# Altium footprint library Connector_Samtec_HSEC8.PcbLib: 133 footprints (part 6 of 9)
Each footprint in its own frame and in the unit in brackets; x right, y up, seen from the top. Pads: shape width x height; smd on the part's side, far side on the other; paste and mask are expansions set on the pad; w line width, h text height; cw(c..) or ccw(c..) is an arc to the next point about the centre after c.
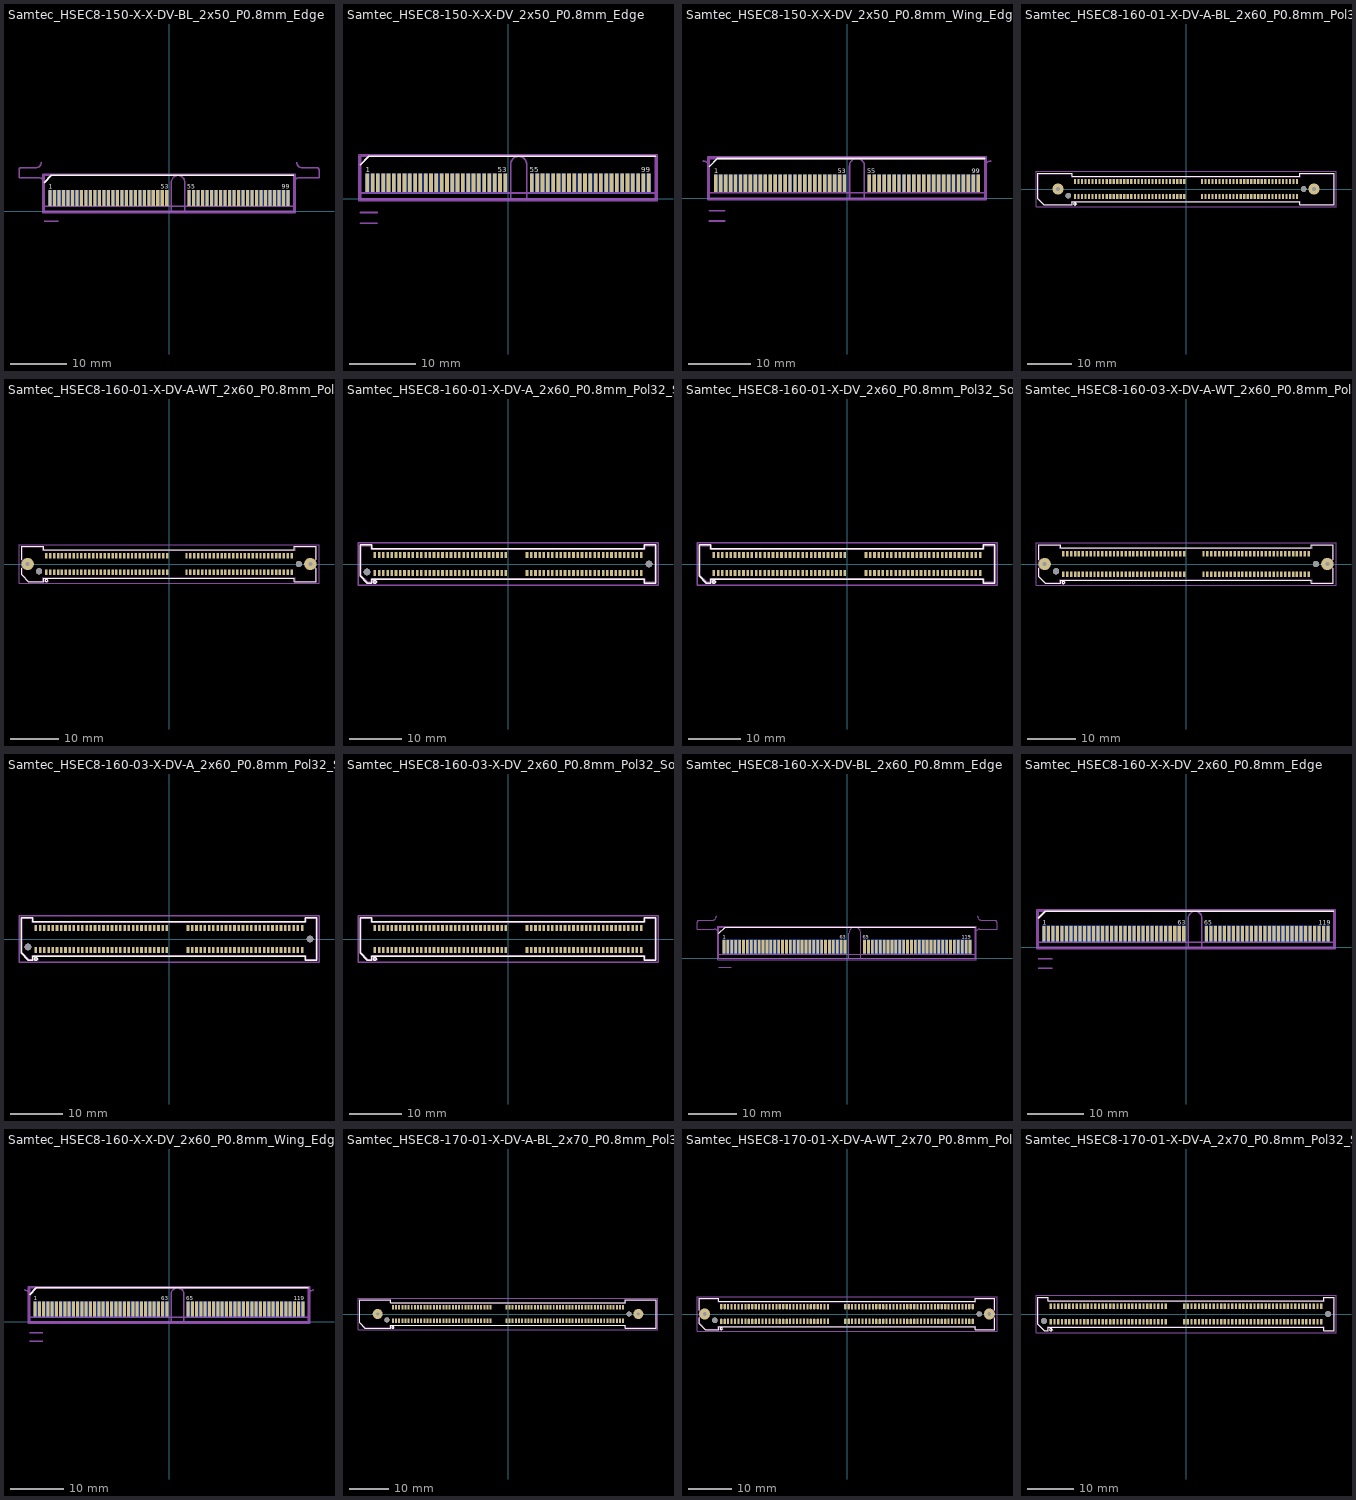
[diagram p5: the footprints below, top view; thin cyan lines are the x and y axes]

## Samtec_HSEC8-150-X-X-DV-BL_2x50_P0.8mm_Edge [mm]
pads (100):
  rect 0.55x2.8 smd: 1(-21.2,2.4) 3(-20.4,2.4) 5(-19.6,2.4) 7(-18.8,2.4) 9(-18,2.4) 11(-17.2,2.4) 13(-16.4,2.4) 15(-15.6,2.4) 17(-14.8,2.4) 19(-14,2.4) 21(-13.2,2.4) 23(-12.4,2.4) 25(-11.6,2.4) 27(-10.8,2.4) 29(-10,2.4) 31(-9.2,2.4) 33(-8.4,2.4) 35(-7.6,2.4) 37(-6.8,2.4) 39(-6,2.4) 41(-5.2,2.4) 43(-4.4,2.4) 45(-3.6,2.4) 47(-2.8,2.4) 49(-2,2.4) 51(-1.2,2.4) 53(-0.4,2.4) 55(3.6,2.4) 57(4.4,2.4) 59(5.2,2.4) 61(6,2.4) 63(6.8,2.4) 65(7.6,2.4) 67(8.4,2.4) 69(9.2,2.4) 71(10,2.4) 73(10.8,2.4) 75(11.6,2.4) 77(12.4,2.4) 79(13.2,2.4) 81(14,2.4) 83(14.8,2.4) 85(15.6,2.4) 87(16.4,2.4) 89(17.2,2.4) 91(18,2.4) 93(18.8,2.4) 95(19.6,2.4) 97(20.4,2.4) 99(21.2,2.4)
  rect 0.55x2.8 smd far side: 2(-21.2,2.4) 4(-20.4,2.4) 6(-19.6,2.4) 8(-18.8,2.4) 10(-18,2.4) 12(-17.2,2.4) 14(-16.4,2.4) 16(-15.6,2.4) 18(-14.8,2.4) 20(-14,2.4) 22(-13.2,2.4) 24(-12.4,2.4) 26(-11.6,2.4) 28(-10.8,2.4) 30(-10,2.4) 32(-9.2,2.4) 34(-8.4,2.4) 36(-7.6,2.4) 38(-6.8,2.4) 40(-6,2.4) 42(-5.2,2.4) 44(-4.4,2.4) 46(-3.6,2.4) 48(-2.8,2.4) 50(-2,2.4) 52(-1.2,2.4) 54(-0.4,2.4) 56(3.6,2.4) 58(4.4,2.4) 60(5.2,2.4) 62(6,2.4) 64(6.8,2.4) 66(7.6,2.4) 68(8.4,2.4) 70(9.2,2.4) 72(10,2.4) 74(10.8,2.4) 76(11.6,2.4) 78(12.4,2.4) 80(13.2,2.4) 82(14,2.4) 84(14.8,2.4) 86(15.6,2.4) 88(16.4,2.4) 90(17.2,2.4) 92(18,2.4) 94(18.8,2.4) 96(19.6,2.4) 98(20.4,2.4) 100(21.2,2.4)
F.SilkS:
  lines w0.254: -22.225,5.13 -20.955,6.4 22.225,6.4
  text "99" at 20.109,4.025 h0.75
  text "55" at 3.241,4.025 h0.75
  text "53" at -1.509,4.025 h0.75
  text "1" at -21.439,4.025 h0.75
B.SilkS:
  lines w0.254: -22.225,6.4 22.225,6.4
  text "100" at 21.459,4.025 h0.75
  text "56" at 4.691,4.025 h0.75
  text "54" at -0.023,4.025 h0.75
  text "2" at -20.8,4.025 h0.75
Top Assembly:
  lines w0.254: -22.225,0.88 22.225,0.88 ; -22.225,0 22.225,0 22.225,6.4 -20.955,6.4 -22.225,5.13 -22.225,0
  text "'.Designator'" at -4.047,1.7 h1
Bottom Assembly:
  lines w0.254: -22.225,0.88 22.225,0.88 ; -22.225,0 22.225,0 22.225,6.4 -22.225,6.4 -22.225,0
Top Courtyard:
  lines w0.254: -22.48,-0.25 22.48,-0.25 22.48,6.65 -22.48,6.65 -22.48,-0.25
Bottom Courtyard:
  lines w0.254: -22.48,-0.25 22.48,-0.25 22.48,6.65 -22.48,6.65 -22.48,-0.25
Top Designator:
  text ".Designator" at -7.618,2.485 h1.52
Board Shape:
  lines w0.254: -22.725,8.78 cw(c-23.725,8.78) -23.725,7.78 -26.325,7.78 ccw(c-26.325,7.38) -26.725,7.38 -26.725,6 -23.225,6 cw(c-23.225,5) -22.225,5 -22.225,0 0.405,0 0.405,5.2 cw(c1.605,5.2) 2.805,5.2 2.805,0 22.225,0 22.225,5 cw(c23.225,5) 23.225,6 26.725,6 26.725,7.38 ccw(c26.325,7.38) 26.325,7.78 23.725,7.78 cw(c23.725,8.78) 22.725,8.78
Cmts.User:
  lines w0.254: -22.225,-1.8 -19.725,-1.8
  text "mated PCB distance: 1.80 mm (ref)" at -19.63,-2.521 h0.75
  text "Chamfer 30 degree 0.45 mm" at -7.868,-0.21 h0.75

## Samtec_HSEC8-150-X-X-DV_2x50_P0.8mm_Edge [mm]
pads (100):
  rect 0.55x2.8 smd: 1(-21.2,2.4) 3(-20.4,2.4) 5(-19.6,2.4) 7(-18.8,2.4) 9(-18,2.4) 11(-17.2,2.4) 13(-16.4,2.4) 15(-15.6,2.4) 17(-14.8,2.4) 19(-14,2.4) 21(-13.2,2.4) 23(-12.4,2.4) 25(-11.6,2.4) 27(-10.8,2.4) 29(-10,2.4) 31(-9.2,2.4) 33(-8.4,2.4) 35(-7.6,2.4) 37(-6.8,2.4) 39(-6,2.4) 41(-5.2,2.4) 43(-4.4,2.4) 45(-3.6,2.4) 47(-2.8,2.4) 49(-2,2.4) 51(-1.2,2.4) 53(-0.4,2.4) 55(3.6,2.4) 57(4.4,2.4) 59(5.2,2.4) 61(6,2.4) 63(6.8,2.4) 65(7.6,2.4) 67(8.4,2.4) 69(9.2,2.4) 71(10,2.4) 73(10.8,2.4) 75(11.6,2.4) 77(12.4,2.4) 79(13.2,2.4) 81(14,2.4) 83(14.8,2.4) 85(15.6,2.4) 87(16.4,2.4) 89(17.2,2.4) 91(18,2.4) 93(18.8,2.4) 95(19.6,2.4) 97(20.4,2.4) 99(21.2,2.4)
  rect 0.55x2.8 smd far side: 2(-21.2,2.4) 4(-20.4,2.4) 6(-19.6,2.4) 8(-18.8,2.4) 10(-18,2.4) 12(-17.2,2.4) 14(-16.4,2.4) 16(-15.6,2.4) 18(-14.8,2.4) 20(-14,2.4) 22(-13.2,2.4) 24(-12.4,2.4) 26(-11.6,2.4) 28(-10.8,2.4) 30(-10,2.4) 32(-9.2,2.4) 34(-8.4,2.4) 36(-7.6,2.4) 38(-6.8,2.4) 40(-6,2.4) 42(-5.2,2.4) 44(-4.4,2.4) 46(-3.6,2.4) 48(-2.8,2.4) 50(-2,2.4) 52(-1.2,2.4) 54(-0.4,2.4) 56(3.6,2.4) 58(4.4,2.4) 60(5.2,2.4) 62(6,2.4) 64(6.8,2.4) 66(7.6,2.4) 68(8.4,2.4) 70(9.2,2.4) 72(10,2.4) 74(10.8,2.4) 76(11.6,2.4) 78(12.4,2.4) 80(13.2,2.4) 82(14,2.4) 84(14.8,2.4) 86(15.6,2.4) 88(16.4,2.4) 90(17.2,2.4) 92(18,2.4) 94(18.8,2.4) 96(19.6,2.4) 98(20.4,2.4) 100(21.2,2.4)
F.SilkS:
  lines w0.254: -22.225,5.13 -20.955,6.4 22.225,6.4
  text "99" at 20.109,4.025 h0.75
  text "55" at 3.241,4.025 h0.75
  text "53" at -1.509,4.025 h0.75
  text "1" at -21.439,4.025 h0.75
B.SilkS:
  lines w0.254: -22.225,6.4 22.225,6.4
  text "100" at 21.459,4.025 h0.75
  text "56" at 4.691,4.025 h0.75
  text "54" at -0.023,4.025 h0.75
  text "2" at -20.8,4.025 h0.75
Top Assembly:
  lines w0.254: -22.225,0.88 22.225,0.88 ; -22.225,0 22.225,0 22.225,6.4 -20.955,6.4 -22.225,5.13 -22.225,0
  text "'.Designator'" at -4.047,1.7 h1
Bottom Assembly:
  lines w0.254: -22.225,0.88 22.225,0.88 ; -22.225,0 22.225,0 22.225,6.4 -22.225,6.4 -22.225,0
Top Courtyard:
  lines w0.254: -22.48,-0.25 22.48,-0.25 22.48,6.65 -22.48,6.65 -22.48,-0.25
Bottom Courtyard:
  lines w0.254: -22.48,-0.25 22.48,-0.25 22.48,6.65 -22.48,6.65 -22.48,-0.25
Top Designator:
  text ".Designator" at -7.618,0.475 h1.52
Board Shape:
  lines w0.254: -22.225,5 -22.225,0 0.405,0 0.405,5.2 cw(c1.605,5.2) 2.805,5.2 2.805,0 22.225,0 22.225,5
Cmts.User:
  lines w0.254: -22.225,-3.69 -19.725,-3.69 ; -22.225,-2.05 -19.725,-2.05
  text "mated PCB distance: 3.69 mm (max)" at -19.63,-4.411 h0.75
  text "mated PCB distance: 2.05 mm (min)" at -19.63,-2.771 h0.75
  text "Chamfer 30 degree 0.45 mm" at -7.868,-0.21 h0.75

## Samtec_HSEC8-150-X-X-DV_2x50_P0.8mm_Wing_Edge [mm]
pads (100):
  rect 0.55x2.8 smd: 1(-21.2,2.4) 3(-20.4,2.4) 5(-19.6,2.4) 7(-18.8,2.4) 9(-18,2.4) 11(-17.2,2.4) 13(-16.4,2.4) 15(-15.6,2.4) 17(-14.8,2.4) 19(-14,2.4) 21(-13.2,2.4) 23(-12.4,2.4) 25(-11.6,2.4) 27(-10.8,2.4) 29(-10,2.4) 31(-9.2,2.4) 33(-8.4,2.4) 35(-7.6,2.4) 37(-6.8,2.4) 39(-6,2.4) 41(-5.2,2.4) 43(-4.4,2.4) 45(-3.6,2.4) 47(-2.8,2.4) 49(-2,2.4) 51(-1.2,2.4) 53(-0.4,2.4) 55(3.6,2.4) 57(4.4,2.4) 59(5.2,2.4) 61(6,2.4) 63(6.8,2.4) 65(7.6,2.4) 67(8.4,2.4) 69(9.2,2.4) 71(10,2.4) 73(10.8,2.4) 75(11.6,2.4) 77(12.4,2.4) 79(13.2,2.4) 81(14,2.4) 83(14.8,2.4) 85(15.6,2.4) 87(16.4,2.4) 89(17.2,2.4) 91(18,2.4) 93(18.8,2.4) 95(19.6,2.4) 97(20.4,2.4) 99(21.2,2.4)
  rect 0.55x2.8 smd far side: 2(-21.2,2.4) 4(-20.4,2.4) 6(-19.6,2.4) 8(-18.8,2.4) 10(-18,2.4) 12(-17.2,2.4) 14(-16.4,2.4) 16(-15.6,2.4) 18(-14.8,2.4) 20(-14,2.4) 22(-13.2,2.4) 24(-12.4,2.4) 26(-11.6,2.4) 28(-10.8,2.4) 30(-10,2.4) 32(-9.2,2.4) 34(-8.4,2.4) 36(-7.6,2.4) 38(-6.8,2.4) 40(-6,2.4) 42(-5.2,2.4) 44(-4.4,2.4) 46(-3.6,2.4) 48(-2.8,2.4) 50(-2,2.4) 52(-1.2,2.4) 54(-0.4,2.4) 56(3.6,2.4) 58(4.4,2.4) 60(5.2,2.4) 62(6,2.4) 64(6.8,2.4) 66(7.6,2.4) 68(8.4,2.4) 70(9.2,2.4) 72(10,2.4) 74(10.8,2.4) 76(11.6,2.4) 78(12.4,2.4) 80(13.2,2.4) 82(14,2.4) 84(14.8,2.4) 86(15.6,2.4) 88(16.4,2.4) 90(17.2,2.4) 92(18,2.4) 94(18.8,2.4) 96(19.6,2.4) 98(20.4,2.4) 100(21.2,2.4)
F.SilkS:
  lines w0.254: -22.225,5.13 -20.955,6.4 22.225,6.4
  text "99" at 20.109,4.025 h0.75
  text "55" at 3.241,4.025 h0.75
  text "53" at -1.509,4.025 h0.75
  text "1" at -21.439,4.025 h0.75
B.SilkS:
  lines w0.254: -22.225,6.4 22.225,6.4
  text "100" at 21.459,4.025 h0.75
  text "56" at 4.691,4.025 h0.75
  text "54" at -0.023,4.025 h0.75
  text "2" at -20.8,4.025 h0.75
Top Assembly:
  lines w0.254: -22.225,0.88 22.225,0.88 ; -22.225,0 22.225,0 22.225,6.4 -20.955,6.4 -22.225,5.13 -22.225,0
  text "'.Designator'" at -4.047,1.7 h1
Bottom Assembly:
  lines w0.254: -22.225,0.88 22.225,0.88 ; -22.225,0 22.225,0 22.225,6.4 -22.225,6.4 -22.225,0
Top Courtyard:
  lines w0.254: -22.48,-0.25 22.48,-0.25 22.48,6.65 -22.48,6.65 -22.48,-0.25
Bottom Courtyard:
  lines w0.254: -22.48,-0.25 22.48,-0.25 22.48,6.65 -22.48,6.65 -22.48,-0.25
Top Designator:
  text ".Designator" at -7.618,0.475 h1.52
Board Shape:
  lines w0.254: -23.225,6 cw(c-23.225,5) -22.225,5 -22.225,0 0.405,0 0.405,5.2 cw(c1.605,5.2) 2.805,5.2 2.805,0 22.225,0 22.225,5 cw(c23.225,5) 23.225,6
Cmts.User:
  lines w0.254: -22.225,-3.69 -19.725,-3.69 ; -22.225,-2.05 -19.725,-2.05
  text "mated PCB distance: 3.69 mm (max)" at -19.63,-4.411 h0.75
  text "mated PCB distance: 2.05 mm (min)" at -19.63,-2.771 h0.75
  text "Chamfer 30 degree 0.45 mm" at -7.868,-0.21 h0.75

## Samtec_HSEC8-160-01-X-DV-A-BL_2x60_P0.8mm_Pol32_Socket_WeldTabs_BoardLocks [mm]
pads (124):
  rrect25% 0.5x1.2 smd: 1(-25.2,-1.7) 2(-25.2,1.7) 3(-24.4,-1.7) 4(-24.4,1.7) 5(-23.6,-1.7) 6(-23.6,1.7) 7(-22.8,-1.7) 8(-22.8,1.7) 9(-22,-1.7) 10(-22,1.7) 11(-21.2,-1.7) 12(-21.2,1.7) 13(-20.4,-1.7) 14(-20.4,1.7) 15(-19.6,-1.7) 16(-19.6,1.7) 17(-18.8,-1.7) 18(-18.8,1.7) 19(-18,-1.7) 20(-18,1.7) 21(-17.2,-1.7) 22(-17.2,1.7) 23(-16.4,-1.7) 24(-16.4,1.7) 25(-15.6,-1.7) 26(-15.6,1.7) 27(-14.8,-1.7) 28(-14.8,1.7) 29(-14,-1.7) 30(-14,1.7) 31(-13.2,-1.7) 32(-13.2,1.7) 33(-12.4,-1.7) 34(-12.4,1.7) 35(-11.6,-1.7) 36(-11.6,1.7) 37(-10.8,-1.7) 38(-10.8,1.7) 39(-10,-1.7) 40(-10,1.7) 41(-9.2,-1.7) 42(-9.2,1.7) 43(-8.4,-1.7) 44(-8.4,1.7) 45(-7.6,-1.7) 46(-7.6,1.7) 47(-6.8,-1.7) 48(-6.8,1.7) 49(-6,-1.7) 50(-6,1.7) 51(-5.2,-1.7) 52(-5.2,1.7) 53(-4.4,-1.7) 54(-4.4,1.7) 55(-3.6,-1.7) 56(-3.6,1.7) 57(-2.8,-1.7) 58(-2.8,1.7) 59(-2,-1.7) 60(-2,1.7) 61(-1.2,-1.7) 62(-1.2,1.7) 63(-0.4,-1.7) 64(-0.4,1.7) 65(3.6,-1.7) 66(3.6,1.7) 67(4.4,-1.7) 68(4.4,1.7) 69(5.2,-1.7) 70(5.2,1.7) 71(6,-1.7) 72(6,1.7) 73(6.8,-1.7) 74(6.8,1.7) 75(7.6,-1.7) 76(7.6,1.7) 77(8.4,-1.7) 78(8.4,1.7) 79(9.2,-1.7) 80(9.2,1.7) 81(10,-1.7) 82(10,1.7) 83(10.8,-1.7) 84(10.8,1.7) 85(11.6,-1.7) 86(11.6,1.7) 87(12.4,-1.7) 88(12.4,1.7) 89(13.2,-1.7) 90(13.2,1.7) 91(14,-1.7) 92(14,1.7) 93(14.8,-1.7) 94(14.8,1.7) 95(15.6,-1.7) 96(15.6,1.7) 97(16.4,-1.7) 98(16.4,1.7) 99(17.2,-1.7) 100(17.2,1.7) 101(18,-1.7) 102(18,1.7) 103(18.8,-1.7) 104(18.8,1.7) 105(19.6,-1.7) 106(19.6,1.7) 107(20.4,-1.7) 108(20.4,1.7) 109(21.2,-1.7) 110(21.2,1.7) 111(22,-1.7) 112(22,1.7) 113(22.8,-1.7) 114(22.8,1.7) 115(23.6,-1.7) 116(23.6,1.7) 117(24.4,-1.7) 118(24.4,1.7) 119(25.2,-1.7) 120(25.2,1.7)
  round 2.54 hole 0.84: Un1(-29.05,0) Un4(29.05,0)
  round 1.27 hole 1.27: Un2(-26.7,-1.5) Un3(26.7,0)
F.SilkS:
  circle w0.254: c-25.2,-3.4 r0.25
  lines w0.254: -33.635,-2.246 -32.271,-3.61 -25.79,-3.61 -25.79,-2.91 25.79,-2.91 25.79,-3.61 33.635,-3.61 33.635,3.61 25.79,3.61 25.79,2.91 -25.79,2.91 -25.79,3.61 -33.635,3.61 -33.635,-2.246
Top Assembly:
  lines w0.254: -33.525,-2.2 -32.225,-3.5 -25.9,-3.5 -25.9,-2.8 25.9,-2.8 25.9,-3.5 33.525,-3.5 33.525,3.5 25.9,3.5 25.9,2.8 -25.9,2.8 -25.9,3.5 -33.525,3.5 -33.525,-2.2 ; -25.6,-3.5 -24.8,-3.5 -25.2,-2.86 -25.6,-3.5
  text "'.Designator'" at -4.047,-0.84 h1
Top Courtyard:
  lines w0.254: -34.03,-4 34.03,-4 34.03,4 -34.03,4 -34.03,-4
Top Designator:
  text ".Designator" at -7.618,-0.508 h1.52

## Samtec_HSEC8-160-01-X-DV-A-WT_2x60_P0.8mm_Pol32_Socket_WeldTabs [mm]
pads (124):
  rrect25% 0.5x1.2 smd: 1(-25.2,-1.7) 2(-25.2,1.7) 3(-24.4,-1.7) 4(-24.4,1.7) 5(-23.6,-1.7) 6(-23.6,1.7) 7(-22.8,-1.7) 8(-22.8,1.7) 9(-22,-1.7) 10(-22,1.7) 11(-21.2,-1.7) 12(-21.2,1.7) 13(-20.4,-1.7) 14(-20.4,1.7) 15(-19.6,-1.7) 16(-19.6,1.7) 17(-18.8,-1.7) 18(-18.8,1.7) 19(-18,-1.7) 20(-18,1.7) 21(-17.2,-1.7) 22(-17.2,1.7) 23(-16.4,-1.7) 24(-16.4,1.7) 25(-15.6,-1.7) 26(-15.6,1.7) 27(-14.8,-1.7) 28(-14.8,1.7) 29(-14,-1.7) 30(-14,1.7) 31(-13.2,-1.7) 32(-13.2,1.7) 33(-12.4,-1.7) 34(-12.4,1.7) 35(-11.6,-1.7) 36(-11.6,1.7) 37(-10.8,-1.7) 38(-10.8,1.7) 39(-10,-1.7) 40(-10,1.7) 41(-9.2,-1.7) 42(-9.2,1.7) 43(-8.4,-1.7) 44(-8.4,1.7) 45(-7.6,-1.7) 46(-7.6,1.7) 47(-6.8,-1.7) 48(-6.8,1.7) 49(-6,-1.7) 50(-6,1.7) 51(-5.2,-1.7) 52(-5.2,1.7) 53(-4.4,-1.7) 54(-4.4,1.7) 55(-3.6,-1.7) 56(-3.6,1.7) 57(-2.8,-1.7) 58(-2.8,1.7) 59(-2,-1.7) 60(-2,1.7) 61(-1.2,-1.7) 62(-1.2,1.7) 63(-0.4,-1.7) 64(-0.4,1.7) 65(3.6,-1.7) 66(3.6,1.7) 67(4.4,-1.7) 68(4.4,1.7) 69(5.2,-1.7) 70(5.2,1.7) 71(6,-1.7) 72(6,1.7) 73(6.8,-1.7) 74(6.8,1.7) 75(7.6,-1.7) 76(7.6,1.7) 77(8.4,-1.7) 78(8.4,1.7) 79(9.2,-1.7) 80(9.2,1.7) 81(10,-1.7) 82(10,1.7) 83(10.8,-1.7) 84(10.8,1.7) 85(11.6,-1.7) 86(11.6,1.7) 87(12.4,-1.7) 88(12.4,1.7) 89(13.2,-1.7) 90(13.2,1.7) 91(14,-1.7) 92(14,1.7) 93(14.8,-1.7) 94(14.8,1.7) 95(15.6,-1.7) 96(15.6,1.7) 97(16.4,-1.7) 98(16.4,1.7) 99(17.2,-1.7) 100(17.2,1.7) 101(18,-1.7) 102(18,1.7) 103(18.8,-1.7) 104(18.8,1.7) 105(19.6,-1.7) 106(19.6,1.7) 107(20.4,-1.7) 108(20.4,1.7) 109(21.2,-1.7) 110(21.2,1.7) 111(22,-1.7) 112(22,1.7) 113(22.8,-1.7) 114(22.8,1.7) 115(23.6,-1.7) 116(23.6,1.7) 117(24.4,-1.7) 118(24.4,1.7) 119(25.2,-1.7) 120(25.2,1.7)
  round 2.54 hole 0.84: Un1(-29.05,0) Un4(29.05,0)
  round 1.27 hole 1.27: Un2(-26.7,-1.5) Un3(26.7,0)
F.SilkS:
  circle w0.254: c-25.2,-3.4 r0.25
  lines w0.254: -30.31,-0.868 -30.31,-2.246 -28.946,-3.61 -25.79,-3.61 -25.79,-2.91 25.79,-2.91 25.79,-3.61 30.31,-3.61 30.31,-0.868 ; -30.31,0.868 -30.31,3.61 -25.79,3.61 -25.79,2.91 25.79,2.91 25.79,3.61 30.31,3.61 30.31,0.868
Top Assembly:
  lines w0.254: -30.2,-2.2 -28.9,-3.5 -25.9,-3.5 -25.9,-2.8 25.9,-2.8 25.9,-3.5 30.2,-3.5 30.2,3.5 25.9,3.5 25.9,2.8 -25.9,2.8 -25.9,3.5 -30.2,3.5 -30.2,-2.2 ; -25.6,-3.5 -24.8,-3.5 -25.2,-2.86 -25.6,-3.5
  text "'.Designator'" at -4.047,-0.84 h1
Top Courtyard:
  lines w0.254: -30.83,-4 30.83,-4 30.83,4 -30.83,4 -30.83,-4
Top Designator:
  text ".Designator" at -7.618,-0.508 h1.52

## Samtec_HSEC8-160-01-X-DV-A_2x60_P0.8mm_Pol32_Socket_AlignmentPins [mm]
pads (122):
  rrect25% 0.5x1.2 smd: 1(-25.2,-1.7) 2(-25.2,1.7) 3(-24.4,-1.7) 4(-24.4,1.7) 5(-23.6,-1.7) 6(-23.6,1.7) 7(-22.8,-1.7) 8(-22.8,1.7) 9(-22,-1.7) 10(-22,1.7) 11(-21.2,-1.7) 12(-21.2,1.7) 13(-20.4,-1.7) 14(-20.4,1.7) 15(-19.6,-1.7) 16(-19.6,1.7) 17(-18.8,-1.7) 18(-18.8,1.7) 19(-18,-1.7) 20(-18,1.7) 21(-17.2,-1.7) 22(-17.2,1.7) 23(-16.4,-1.7) 24(-16.4,1.7) 25(-15.6,-1.7) 26(-15.6,1.7) 27(-14.8,-1.7) 28(-14.8,1.7) 29(-14,-1.7) 30(-14,1.7) 31(-13.2,-1.7) 32(-13.2,1.7) 33(-12.4,-1.7) 34(-12.4,1.7) 35(-11.6,-1.7) 36(-11.6,1.7) 37(-10.8,-1.7) 38(-10.8,1.7) 39(-10,-1.7) 40(-10,1.7) 41(-9.2,-1.7) 42(-9.2,1.7) 43(-8.4,-1.7) 44(-8.4,1.7) 45(-7.6,-1.7) 46(-7.6,1.7) 47(-6.8,-1.7) 48(-6.8,1.7) 49(-6,-1.7) 50(-6,1.7) 51(-5.2,-1.7) 52(-5.2,1.7) 53(-4.4,-1.7) 54(-4.4,1.7) 55(-3.6,-1.7) 56(-3.6,1.7) 57(-2.8,-1.7) 58(-2.8,1.7) 59(-2,-1.7) 60(-2,1.7) 61(-1.2,-1.7) 62(-1.2,1.7) 63(-0.4,-1.7) 64(-0.4,1.7) 65(3.6,-1.7) 66(3.6,1.7) 67(4.4,-1.7) 68(4.4,1.7) 69(5.2,-1.7) 70(5.2,1.7) 71(6,-1.7) 72(6,1.7) 73(6.8,-1.7) 74(6.8,1.7) 75(7.6,-1.7) 76(7.6,1.7) 77(8.4,-1.7) 78(8.4,1.7) 79(9.2,-1.7) 80(9.2,1.7) 81(10,-1.7) 82(10,1.7) 83(10.8,-1.7) 84(10.8,1.7) 85(11.6,-1.7) 86(11.6,1.7) 87(12.4,-1.7) 88(12.4,1.7) 89(13.2,-1.7) 90(13.2,1.7) 91(14,-1.7) 92(14,1.7) 93(14.8,-1.7) 94(14.8,1.7) 95(15.6,-1.7) 96(15.6,1.7) 97(16.4,-1.7) 98(16.4,1.7) 99(17.2,-1.7) 100(17.2,1.7) 101(18,-1.7) 102(18,1.7) 103(18.8,-1.7) 104(18.8,1.7) 105(19.6,-1.7) 106(19.6,1.7) 107(20.4,-1.7) 108(20.4,1.7) 109(21.2,-1.7) 110(21.2,1.7) 111(22,-1.7) 112(22,1.7) 113(22.8,-1.7) 114(22.8,1.7) 115(23.6,-1.7) 116(23.6,1.7) 117(24.4,-1.7) 118(24.4,1.7) 119(25.2,-1.7) 120(25.2,1.7)
  round 1.27 hole 1.27: Un1(-26.7,-1.5) Un2(26.7,0)
F.SilkS:
  circle w0.254: c-25.2,-3.4 r0.25
  lines w0.254: -28.01,-2.246 -26.646,-3.61 -25.79,-3.61 -25.79,-2.91 25.79,-2.91 25.79,-3.61 28.01,-3.61 28.01,3.61 25.79,3.61 25.79,2.91 -25.79,2.91 -25.79,3.61 -28.01,3.61 -28.01,-2.246
Top Assembly:
  lines w0.254: -27.9,-2.2 -26.6,-3.5 -25.9,-3.5 -25.9,-2.8 25.9,-2.8 25.9,-3.5 27.9,-3.5 27.9,3.5 25.9,3.5 25.9,2.8 -25.9,2.8 -25.9,3.5 -27.9,3.5 -27.9,-2.2 ; -25.6,-3.5 -24.8,-3.5 -25.2,-2.86 -25.6,-3.5
  text "'.Designator'" at -4.047,-0.84 h1
Top Courtyard:
  lines w0.254: -28.4,-4 28.4,-4 28.4,4 -28.4,4 -28.4,-4
Top Designator:
  text ".Designator" at -7.618,-0.508 h1.52

## Samtec_HSEC8-160-01-X-DV_2x60_P0.8mm_Pol32_Socket [mm]
pads (120):
  rrect25% 0.5x1.2 smd: 1(-25.2,-1.7) 2(-25.2,1.7) 3(-24.4,-1.7) 4(-24.4,1.7) 5(-23.6,-1.7) 6(-23.6,1.7) 7(-22.8,-1.7) 8(-22.8,1.7) 9(-22,-1.7) 10(-22,1.7) 11(-21.2,-1.7) 12(-21.2,1.7) 13(-20.4,-1.7) 14(-20.4,1.7) 15(-19.6,-1.7) 16(-19.6,1.7) 17(-18.8,-1.7) 18(-18.8,1.7) 19(-18,-1.7) 20(-18,1.7) 21(-17.2,-1.7) 22(-17.2,1.7) 23(-16.4,-1.7) 24(-16.4,1.7) 25(-15.6,-1.7) 26(-15.6,1.7) 27(-14.8,-1.7) 28(-14.8,1.7) 29(-14,-1.7) 30(-14,1.7) 31(-13.2,-1.7) 32(-13.2,1.7) 33(-12.4,-1.7) 34(-12.4,1.7) 35(-11.6,-1.7) 36(-11.6,1.7) 37(-10.8,-1.7) 38(-10.8,1.7) 39(-10,-1.7) 40(-10,1.7) 41(-9.2,-1.7) 42(-9.2,1.7) 43(-8.4,-1.7) 44(-8.4,1.7) 45(-7.6,-1.7) 46(-7.6,1.7) 47(-6.8,-1.7) 48(-6.8,1.7) 49(-6,-1.7) 50(-6,1.7) 51(-5.2,-1.7) 52(-5.2,1.7) 53(-4.4,-1.7) 54(-4.4,1.7) 55(-3.6,-1.7) 56(-3.6,1.7) 57(-2.8,-1.7) 58(-2.8,1.7) 59(-2,-1.7) 60(-2,1.7) 61(-1.2,-1.7) 62(-1.2,1.7) 63(-0.4,-1.7) 64(-0.4,1.7) 65(3.6,-1.7) 66(3.6,1.7) 67(4.4,-1.7) 68(4.4,1.7) 69(5.2,-1.7) 70(5.2,1.7) 71(6,-1.7) 72(6,1.7) 73(6.8,-1.7) 74(6.8,1.7) 75(7.6,-1.7) 76(7.6,1.7) 77(8.4,-1.7) 78(8.4,1.7) 79(9.2,-1.7) 80(9.2,1.7) 81(10,-1.7) 82(10,1.7) 83(10.8,-1.7) 84(10.8,1.7) 85(11.6,-1.7) 86(11.6,1.7) 87(12.4,-1.7) 88(12.4,1.7) 89(13.2,-1.7) 90(13.2,1.7) 91(14,-1.7) 92(14,1.7) 93(14.8,-1.7) 94(14.8,1.7) 95(15.6,-1.7) 96(15.6,1.7) 97(16.4,-1.7) 98(16.4,1.7) 99(17.2,-1.7) 100(17.2,1.7) 101(18,-1.7) 102(18,1.7) 103(18.8,-1.7) 104(18.8,1.7) 105(19.6,-1.7) 106(19.6,1.7) 107(20.4,-1.7) 108(20.4,1.7) 109(21.2,-1.7) 110(21.2,1.7) 111(22,-1.7) 112(22,1.7) 113(22.8,-1.7) 114(22.8,1.7) 115(23.6,-1.7) 116(23.6,1.7) 117(24.4,-1.7) 118(24.4,1.7) 119(25.2,-1.7) 120(25.2,1.7)
F.SilkS:
  circle w0.254: c-25.2,-3.4 r0.25
  lines w0.254: -28.01,-2.246 -26.646,-3.61 -25.79,-3.61 -25.79,-2.91 25.79,-2.91 25.79,-3.61 28.01,-3.61 28.01,3.61 25.79,3.61 25.79,2.91 -25.79,2.91 -25.79,3.61 -28.01,3.61 -28.01,-2.246
Top Assembly:
  lines w0.254: -27.9,-2.2 -26.6,-3.5 -25.9,-3.5 -25.9,-2.8 25.9,-2.8 25.9,-3.5 27.9,-3.5 27.9,3.5 25.9,3.5 25.9,2.8 -25.9,2.8 -25.9,3.5 -27.9,3.5 -27.9,-2.2 ; -25.6,-3.5 -24.8,-3.5 -25.2,-2.86 -25.6,-3.5
  text "'.Designator'" at -4.047,-0.84 h1
Top Courtyard:
  lines w0.254: -28.4,-4 28.4,-4 28.4,4 -28.4,4 -28.4,-4
Top Designator:
  text ".Designator" at -7.618,-0.508 h1.52

## Samtec_HSEC8-160-03-X-DV-A-WT_2x60_P0.8mm_Pol32_Socket_WeldTabs [mm]
pads (124):
  rrect25% 0.5x1.2 smd: 1(-25.2,-2.095) 2(-25.2,2.095) 3(-24.4,-2.095) 4(-24.4,2.095) 5(-23.6,-2.095) 6(-23.6,2.095) 7(-22.8,-2.095) 8(-22.8,2.095) 9(-22,-2.095) 10(-22,2.095) 11(-21.2,-2.095) 12(-21.2,2.095) 13(-20.4,-2.095) 14(-20.4,2.095) 15(-19.6,-2.095) 16(-19.6,2.095) 17(-18.8,-2.095) 18(-18.8,2.095) 19(-18,-2.095) 20(-18,2.095) 21(-17.2,-2.095) 22(-17.2,2.095) 23(-16.4,-2.095) 24(-16.4,2.095) 25(-15.6,-2.095) 26(-15.6,2.095) 27(-14.8,-2.095) 28(-14.8,2.095) 29(-14,-2.095) 30(-14,2.095) 31(-13.2,-2.095) 32(-13.2,2.095) 33(-12.4,-2.095) 34(-12.4,2.095) 35(-11.6,-2.095) 36(-11.6,2.095) 37(-10.8,-2.095) 38(-10.8,2.095) 39(-10,-2.095) 40(-10,2.095) 41(-9.2,-2.095) 42(-9.2,2.095) 43(-8.4,-2.095) 44(-8.4,2.095) 45(-7.6,-2.095) 46(-7.6,2.095) 47(-6.8,-2.095) 48(-6.8,2.095) 49(-6,-2.095) 50(-6,2.095) 51(-5.2,-2.095) 52(-5.2,2.095) 53(-4.4,-2.095) 54(-4.4,2.095) 55(-3.6,-2.095) 56(-3.6,2.095) 57(-2.8,-2.095) 58(-2.8,2.095) 59(-2,-2.095) 60(-2,2.095) 61(-1.2,-2.095) 62(-1.2,2.095) 63(-0.4,-2.095) 64(-0.4,2.095) 65(3.6,-2.095) 66(3.6,2.095) 67(4.4,-2.095) 68(4.4,2.095) 69(5.2,-2.095) 70(5.2,2.095) 71(6,-2.095) 72(6,2.095) 73(6.8,-2.095) 74(6.8,2.095) 75(7.6,-2.095) 76(7.6,2.095) 77(8.4,-2.095) 78(8.4,2.095) 79(9.2,-2.095) 80(9.2,2.095) 81(10,-2.095) 82(10,2.095) 83(10.8,-2.095) 84(10.8,2.095) 85(11.6,-2.095) 86(11.6,2.095) 87(12.4,-2.095) 88(12.4,2.095) 89(13.2,-2.095) 90(13.2,2.095) 91(14,-2.095) 92(14,2.095) 93(14.8,-2.095) 94(14.8,2.095) 95(15.6,-2.095) 96(15.6,2.095) 97(16.4,-2.095) 98(16.4,2.095) 99(17.2,-2.095) 100(17.2,2.095) 101(18,-2.095) 102(18,2.095) 103(18.8,-2.095) 104(18.8,2.095) 105(19.6,-2.095) 106(19.6,2.095) 107(20.4,-2.095) 108(20.4,2.095) 109(21.2,-2.095) 110(21.2,2.095) 111(22,-2.095) 112(22,2.095) 113(22.8,-2.095) 114(22.8,2.095) 115(23.6,-2.095) 116(23.6,2.095) 117(24.4,-2.095) 118(24.4,2.095) 119(25.2,-2.095) 120(25.2,2.095)
  round 2.54 hole 0.84: Un1(-29.05,0) Un4(29.05,0)
  round 1.27 hole 1.27: Un2(-26.7,-1.5) Un3(26.7,0)
F.SilkS:
  circle w0.254: c-25.2,-3.795 r0.25
  lines w0.254: -30.31,-0.868 -30.31,-2.641 -28.946,-4.005 -25.79,-4.005 -25.79,-3.305 25.79,-3.305 25.79,-4.005 30.31,-4.005 30.31,-0.868 ; -30.31,0.868 -30.31,4.005 -25.79,4.005 -25.79,3.305 25.79,3.305 25.79,4.005 30.31,4.005 30.31,0.868
Top Assembly:
  lines w0.254: -30.2,-2.595 -28.9,-3.895 -25.9,-3.895 -25.9,-3.195 25.9,-3.195 25.9,-3.895 30.2,-3.895 30.2,3.895 25.9,3.895 25.9,3.195 -25.9,3.195 -25.9,3.895 -30.2,3.895 -30.2,-2.595 ; -25.6,-3.895 -24.8,-3.895 -25.2,-3.255 -25.6,-3.895
  text "'.Designator'" at -4.047,-0.84 h1
Top Courtyard:
  lines w0.254: -30.83,-4.4 30.83,-4.4 30.83,4.4 -30.83,4.4 -30.83,-4.4
Top Designator:
  text ".Designator" at -7.618,-0.508 h1.52

## Samtec_HSEC8-160-03-X-DV-A_2x60_P0.8mm_Pol32_Socket_AlignmentPins [mm]
pads (122):
  rrect25% 0.5x1.2 smd: 1(-25.2,-2.095) 2(-25.2,2.095) 3(-24.4,-2.095) 4(-24.4,2.095) 5(-23.6,-2.095) 6(-23.6,2.095) 7(-22.8,-2.095) 8(-22.8,2.095) 9(-22,-2.095) 10(-22,2.095) 11(-21.2,-2.095) 12(-21.2,2.095) 13(-20.4,-2.095) 14(-20.4,2.095) 15(-19.6,-2.095) 16(-19.6,2.095) 17(-18.8,-2.095) 18(-18.8,2.095) 19(-18,-2.095) 20(-18,2.095) 21(-17.2,-2.095) 22(-17.2,2.095) 23(-16.4,-2.095) 24(-16.4,2.095) 25(-15.6,-2.095) 26(-15.6,2.095) 27(-14.8,-2.095) 28(-14.8,2.095) 29(-14,-2.095) 30(-14,2.095) 31(-13.2,-2.095) 32(-13.2,2.095) 33(-12.4,-2.095) 34(-12.4,2.095) 35(-11.6,-2.095) 36(-11.6,2.095) 37(-10.8,-2.095) 38(-10.8,2.095) 39(-10,-2.095) 40(-10,2.095) 41(-9.2,-2.095) 42(-9.2,2.095) 43(-8.4,-2.095) 44(-8.4,2.095) 45(-7.6,-2.095) 46(-7.6,2.095) 47(-6.8,-2.095) 48(-6.8,2.095) 49(-6,-2.095) 50(-6,2.095) 51(-5.2,-2.095) 52(-5.2,2.095) 53(-4.4,-2.095) 54(-4.4,2.095) 55(-3.6,-2.095) 56(-3.6,2.095) 57(-2.8,-2.095) 58(-2.8,2.095) 59(-2,-2.095) 60(-2,2.095) 61(-1.2,-2.095) 62(-1.2,2.095) 63(-0.4,-2.095) 64(-0.4,2.095) 65(3.6,-2.095) 66(3.6,2.095) 67(4.4,-2.095) 68(4.4,2.095) 69(5.2,-2.095) 70(5.2,2.095) 71(6,-2.095) 72(6,2.095) 73(6.8,-2.095) 74(6.8,2.095) 75(7.6,-2.095) 76(7.6,2.095) 77(8.4,-2.095) 78(8.4,2.095) 79(9.2,-2.095) 80(9.2,2.095) 81(10,-2.095) 82(10,2.095) 83(10.8,-2.095) 84(10.8,2.095) 85(11.6,-2.095) 86(11.6,2.095) 87(12.4,-2.095) 88(12.4,2.095) 89(13.2,-2.095) 90(13.2,2.095) 91(14,-2.095) 92(14,2.095) 93(14.8,-2.095) 94(14.8,2.095) 95(15.6,-2.095) 96(15.6,2.095) 97(16.4,-2.095) 98(16.4,2.095) 99(17.2,-2.095) 100(17.2,2.095) 101(18,-2.095) 102(18,2.095) 103(18.8,-2.095) 104(18.8,2.095) 105(19.6,-2.095) 106(19.6,2.095) 107(20.4,-2.095) 108(20.4,2.095) 109(21.2,-2.095) 110(21.2,2.095) 111(22,-2.095) 112(22,2.095) 113(22.8,-2.095) 114(22.8,2.095) 115(23.6,-2.095) 116(23.6,2.095) 117(24.4,-2.095) 118(24.4,2.095) 119(25.2,-2.095) 120(25.2,2.095)
  round 1.27 hole 1.27: Un1(-26.7,-1.5) Un2(26.7,0)
F.SilkS:
  circle w0.254: c-25.2,-3.795 r0.25
  lines w0.254: -28.01,-2.641 -26.646,-4.005 -25.79,-4.005 -25.79,-3.305 25.79,-3.305 25.79,-4.005 28.01,-4.005 28.01,4.005 25.79,4.005 25.79,3.305 -25.79,3.305 -25.79,4.005 -28.01,4.005 -28.01,-2.641
Top Assembly:
  lines w0.254: -27.9,-2.595 -26.6,-3.895 -25.9,-3.895 -25.9,-3.195 25.9,-3.195 25.9,-3.895 27.9,-3.895 27.9,3.895 25.9,3.895 25.9,3.195 -25.9,3.195 -25.9,3.895 -27.9,3.895 -27.9,-2.595 ; -25.6,-3.895 -24.8,-3.895 -25.2,-3.255 -25.6,-3.895
  text "'.Designator'" at -4.047,-0.84 h1
Top Courtyard:
  lines w0.254: -28.4,-4.4 28.4,-4.4 28.4,4.4 -28.4,4.4 -28.4,-4.4
Top Designator:
  text ".Designator" at -7.618,-0.508 h1.52

## Samtec_HSEC8-160-03-X-DV_2x60_P0.8mm_Pol32_Socket [mm]
pads (120):
  rrect25% 0.5x1.2 smd: 1(-25.2,-2.095) 2(-25.2,2.095) 3(-24.4,-2.095) 4(-24.4,2.095) 5(-23.6,-2.095) 6(-23.6,2.095) 7(-22.8,-2.095) 8(-22.8,2.095) 9(-22,-2.095) 10(-22,2.095) 11(-21.2,-2.095) 12(-21.2,2.095) 13(-20.4,-2.095) 14(-20.4,2.095) 15(-19.6,-2.095) 16(-19.6,2.095) 17(-18.8,-2.095) 18(-18.8,2.095) 19(-18,-2.095) 20(-18,2.095) 21(-17.2,-2.095) 22(-17.2,2.095) 23(-16.4,-2.095) 24(-16.4,2.095) 25(-15.6,-2.095) 26(-15.6,2.095) 27(-14.8,-2.095) 28(-14.8,2.095) 29(-14,-2.095) 30(-14,2.095) 31(-13.2,-2.095) 32(-13.2,2.095) 33(-12.4,-2.095) 34(-12.4,2.095) 35(-11.6,-2.095) 36(-11.6,2.095) 37(-10.8,-2.095) 38(-10.8,2.095) 39(-10,-2.095) 40(-10,2.095) 41(-9.2,-2.095) 42(-9.2,2.095) 43(-8.4,-2.095) 44(-8.4,2.095) 45(-7.6,-2.095) 46(-7.6,2.095) 47(-6.8,-2.095) 48(-6.8,2.095) 49(-6,-2.095) 50(-6,2.095) 51(-5.2,-2.095) 52(-5.2,2.095) 53(-4.4,-2.095) 54(-4.4,2.095) 55(-3.6,-2.095) 56(-3.6,2.095) 57(-2.8,-2.095) 58(-2.8,2.095) 59(-2,-2.095) 60(-2,2.095) 61(-1.2,-2.095) 62(-1.2,2.095) 63(-0.4,-2.095) 64(-0.4,2.095) 65(3.6,-2.095) 66(3.6,2.095) 67(4.4,-2.095) 68(4.4,2.095) 69(5.2,-2.095) 70(5.2,2.095) 71(6,-2.095) 72(6,2.095) 73(6.8,-2.095) 74(6.8,2.095) 75(7.6,-2.095) 76(7.6,2.095) 77(8.4,-2.095) 78(8.4,2.095) 79(9.2,-2.095) 80(9.2,2.095) 81(10,-2.095) 82(10,2.095) 83(10.8,-2.095) 84(10.8,2.095) 85(11.6,-2.095) 86(11.6,2.095) 87(12.4,-2.095) 88(12.4,2.095) 89(13.2,-2.095) 90(13.2,2.095) 91(14,-2.095) 92(14,2.095) 93(14.8,-2.095) 94(14.8,2.095) 95(15.6,-2.095) 96(15.6,2.095) 97(16.4,-2.095) 98(16.4,2.095) 99(17.2,-2.095) 100(17.2,2.095) 101(18,-2.095) 102(18,2.095) 103(18.8,-2.095) 104(18.8,2.095) 105(19.6,-2.095) 106(19.6,2.095) 107(20.4,-2.095) 108(20.4,2.095) 109(21.2,-2.095) 110(21.2,2.095) 111(22,-2.095) 112(22,2.095) 113(22.8,-2.095) 114(22.8,2.095) 115(23.6,-2.095) 116(23.6,2.095) 117(24.4,-2.095) 118(24.4,2.095) 119(25.2,-2.095) 120(25.2,2.095)
F.SilkS:
  circle w0.254: c-25.2,-3.795 r0.25
  lines w0.254: -28.01,-2.641 -26.646,-4.005 -25.79,-4.005 -25.79,-3.305 25.79,-3.305 25.79,-4.005 28.01,-4.005 28.01,4.005 25.79,4.005 25.79,3.305 -25.79,3.305 -25.79,4.005 -28.01,4.005 -28.01,-2.641
Top Assembly:
  lines w0.254: -27.9,-2.595 -26.6,-3.895 -25.9,-3.895 -25.9,-3.195 25.9,-3.195 25.9,-3.895 27.9,-3.895 27.9,3.895 25.9,3.895 25.9,3.195 -25.9,3.195 -25.9,3.895 -27.9,3.895 -27.9,-2.595 ; -25.6,-3.895 -24.8,-3.895 -25.2,-3.255 -25.6,-3.895
  text "'.Designator'" at -4.047,-0.84 h1
Top Courtyard:
  lines w0.254: -28.4,-4.4 28.4,-4.4 28.4,4.4 -28.4,4.4 -28.4,-4.4
Top Designator:
  text ".Designator" at -7.618,-0.508 h1.52

## Samtec_HSEC8-160-X-X-DV-BL_2x60_P0.8mm_Edge [mm]
pads (120):
  rect 0.55x2.8 smd: 1(-25.2,2.4) 3(-24.4,2.4) 5(-23.6,2.4) 7(-22.8,2.4) 9(-22,2.4) 11(-21.2,2.4) 13(-20.4,2.4) 15(-19.6,2.4) 17(-18.8,2.4) 19(-18,2.4) 21(-17.2,2.4) 23(-16.4,2.4) 25(-15.6,2.4) 27(-14.8,2.4) 29(-14,2.4) 31(-13.2,2.4) 33(-12.4,2.4) 35(-11.6,2.4) 37(-10.8,2.4) 39(-10,2.4) 41(-9.2,2.4) 43(-8.4,2.4) 45(-7.6,2.4) 47(-6.8,2.4) 49(-6,2.4) 51(-5.2,2.4) 53(-4.4,2.4) 55(-3.6,2.4) 57(-2.8,2.4) 59(-2,2.4) 61(-1.2,2.4) 63(-0.4,2.4) 65(3.6,2.4) 67(4.4,2.4) 69(5.2,2.4) 71(6,2.4) 73(6.8,2.4) 75(7.6,2.4) 77(8.4,2.4) 79(9.2,2.4) 81(10,2.4) 83(10.8,2.4) 85(11.6,2.4) 87(12.4,2.4) 89(13.2,2.4) 91(14,2.4) 93(14.8,2.4) 95(15.6,2.4) 97(16.4,2.4) 99(17.2,2.4) 101(18,2.4) 103(18.8,2.4) 105(19.6,2.4) 107(20.4,2.4) 109(21.2,2.4) 111(22,2.4) 113(22.8,2.4) 115(23.6,2.4) 117(24.4,2.4) 119(25.2,2.4)
  rect 0.55x2.8 smd far side: 2(-25.2,2.4) 4(-24.4,2.4) 6(-23.6,2.4) 8(-22.8,2.4) 10(-22,2.4) 12(-21.2,2.4) 14(-20.4,2.4) 16(-19.6,2.4) 18(-18.8,2.4) 20(-18,2.4) 22(-17.2,2.4) 24(-16.4,2.4) 26(-15.6,2.4) 28(-14.8,2.4) 30(-14,2.4) 32(-13.2,2.4) 34(-12.4,2.4) 36(-11.6,2.4) 38(-10.8,2.4) 40(-10,2.4) 42(-9.2,2.4) 44(-8.4,2.4) 46(-7.6,2.4) 48(-6.8,2.4) 50(-6,2.4) 52(-5.2,2.4) 54(-4.4,2.4) 56(-3.6,2.4) 58(-2.8,2.4) 60(-2,2.4) 62(-1.2,2.4) 64(-0.4,2.4) 66(3.6,2.4) 68(4.4,2.4) 70(5.2,2.4) 72(6,2.4) 74(6.8,2.4) 76(7.6,2.4) 78(8.4,2.4) 80(9.2,2.4) 82(10,2.4) 84(10.8,2.4) 86(11.6,2.4) 88(12.4,2.4) 90(13.2,2.4) 92(14,2.4) 94(14.8,2.4) 96(15.6,2.4) 98(16.4,2.4) 100(17.2,2.4) 102(18,2.4) 104(18.8,2.4) 106(19.6,2.4) 108(20.4,2.4) 110(21.2,2.4) 112(22,2.4) 114(22.8,2.4) 116(23.6,2.4) 118(24.4,2.4) 120(25.2,2.4)
F.SilkS:
  lines w0.254: -26.225,5.13 -24.955,6.4 26.225,6.4
  text "119" at 23.518,4.025 h0.75
  text "65" at 3.261,4.025 h0.75
  text "63" at -1.489,4.025 h0.75
  text "1" at -25.439,4.025 h0.75
B.SilkS:
  lines w0.254: -26.225,6.4 26.225,6.4
  text "120" at 25.459,4.025 h0.75
  text "66" at 4.671,4.025 h0.75
  text "64" at -0.043,4.025 h0.75
  text "2" at -24.8,4.025 h0.75
Top Assembly:
  lines w0.254: -26.225,0.88 26.225,0.88 ; -26.225,0 26.225,0 26.225,6.4 -24.955,6.4 -26.225,5.13 -26.225,0
  text "'.Designator'" at -4.047,1.7 h1
Bottom Assembly:
  lines w0.254: -26.225,0.88 26.225,0.88 ; -26.225,0 26.225,0 26.225,6.4 -26.225,6.4 -26.225,0
Top Courtyard:
  lines w0.254: -26.48,-0.25 26.48,-0.25 26.48,6.65 -26.48,6.65 -26.48,-0.25
Bottom Courtyard:
  lines w0.254: -26.48,-0.25 26.48,-0.25 26.48,6.65 -26.48,6.65 -26.48,-0.25
Top Designator:
  text ".Designator" at -7.618,2.485 h1.52
Board Shape:
  lines w0.254: -26.725,8.78 cw(c-27.725,8.78) -27.725,7.78 -30.325,7.78 ccw(c-30.325,7.38) -30.725,7.38 -30.725,6 -27.225,6 cw(c-27.225,5) -26.225,5 -26.225,0 0.405,0 0.405,5.2 cw(c1.605,5.2) 2.805,5.2 2.805,0 26.225,0 26.225,5 cw(c27.225,5) 27.225,6 30.725,6 30.725,7.38 ccw(c30.325,7.38) 30.325,7.78 27.725,7.78 cw(c27.725,8.78) 26.725,8.78
Cmts.User:
  lines w0.254: -26.225,-1.8 -23.725,-1.8
  text "mated PCB distance: 1.80 mm (ref)" at -23.63,-2.521 h0.75
  text "Chamfer 30 degree 0.45 mm" at -7.868,-0.21 h0.75

## Samtec_HSEC8-160-X-X-DV_2x60_P0.8mm_Edge [mm]
pads (120):
  rect 0.55x2.8 smd: 1(-25.2,2.4) 3(-24.4,2.4) 5(-23.6,2.4) 7(-22.8,2.4) 9(-22,2.4) 11(-21.2,2.4) 13(-20.4,2.4) 15(-19.6,2.4) 17(-18.8,2.4) 19(-18,2.4) 21(-17.2,2.4) 23(-16.4,2.4) 25(-15.6,2.4) 27(-14.8,2.4) 29(-14,2.4) 31(-13.2,2.4) 33(-12.4,2.4) 35(-11.6,2.4) 37(-10.8,2.4) 39(-10,2.4) 41(-9.2,2.4) 43(-8.4,2.4) 45(-7.6,2.4) 47(-6.8,2.4) 49(-6,2.4) 51(-5.2,2.4) 53(-4.4,2.4) 55(-3.6,2.4) 57(-2.8,2.4) 59(-2,2.4) 61(-1.2,2.4) 63(-0.4,2.4) 65(3.6,2.4) 67(4.4,2.4) 69(5.2,2.4) 71(6,2.4) 73(6.8,2.4) 75(7.6,2.4) 77(8.4,2.4) 79(9.2,2.4) 81(10,2.4) 83(10.8,2.4) 85(11.6,2.4) 87(12.4,2.4) 89(13.2,2.4) 91(14,2.4) 93(14.8,2.4) 95(15.6,2.4) 97(16.4,2.4) 99(17.2,2.4) 101(18,2.4) 103(18.8,2.4) 105(19.6,2.4) 107(20.4,2.4) 109(21.2,2.4) 111(22,2.4) 113(22.8,2.4) 115(23.6,2.4) 117(24.4,2.4) 119(25.2,2.4)
  rect 0.55x2.8 smd far side: 2(-25.2,2.4) 4(-24.4,2.4) 6(-23.6,2.4) 8(-22.8,2.4) 10(-22,2.4) 12(-21.2,2.4) 14(-20.4,2.4) 16(-19.6,2.4) 18(-18.8,2.4) 20(-18,2.4) 22(-17.2,2.4) 24(-16.4,2.4) 26(-15.6,2.4) 28(-14.8,2.4) 30(-14,2.4) 32(-13.2,2.4) 34(-12.4,2.4) 36(-11.6,2.4) 38(-10.8,2.4) 40(-10,2.4) 42(-9.2,2.4) 44(-8.4,2.4) 46(-7.6,2.4) 48(-6.8,2.4) 50(-6,2.4) 52(-5.2,2.4) 54(-4.4,2.4) 56(-3.6,2.4) 58(-2.8,2.4) 60(-2,2.4) 62(-1.2,2.4) 64(-0.4,2.4) 66(3.6,2.4) 68(4.4,2.4) 70(5.2,2.4) 72(6,2.4) 74(6.8,2.4) 76(7.6,2.4) 78(8.4,2.4) 80(9.2,2.4) 82(10,2.4) 84(10.8,2.4) 86(11.6,2.4) 88(12.4,2.4) 90(13.2,2.4) 92(14,2.4) 94(14.8,2.4) 96(15.6,2.4) 98(16.4,2.4) 100(17.2,2.4) 102(18,2.4) 104(18.8,2.4) 106(19.6,2.4) 108(20.4,2.4) 110(21.2,2.4) 112(22,2.4) 114(22.8,2.4) 116(23.6,2.4) 118(24.4,2.4) 120(25.2,2.4)
F.SilkS:
  lines w0.254: -26.225,5.13 -24.955,6.4 26.225,6.4
  text "119" at 23.518,4.025 h0.75
  text "65" at 3.261,4.025 h0.75
  text "63" at -1.489,4.025 h0.75
  text "1" at -25.439,4.025 h0.75
B.SilkS:
  lines w0.254: -26.225,6.4 26.225,6.4
  text "120" at 25.459,4.025 h0.75
  text "66" at 4.671,4.025 h0.75
  text "64" at -0.043,4.025 h0.75
  text "2" at -24.8,4.025 h0.75
Top Assembly:
  lines w0.254: -26.225,0.88 26.225,0.88 ; -26.225,0 26.225,0 26.225,6.4 -24.955,6.4 -26.225,5.13 -26.225,0
  text "'.Designator'" at -4.047,1.7 h1
Bottom Assembly:
  lines w0.254: -26.225,0.88 26.225,0.88 ; -26.225,0 26.225,0 26.225,6.4 -26.225,6.4 -26.225,0
Top Courtyard:
  lines w0.254: -26.48,-0.25 26.48,-0.25 26.48,6.65 -26.48,6.65 -26.48,-0.25
Bottom Courtyard:
  lines w0.254: -26.48,-0.25 26.48,-0.25 26.48,6.65 -26.48,6.65 -26.48,-0.25
Top Designator:
  text ".Designator" at -7.618,0.475 h1.52
Board Shape:
  lines w0.254: -26.225,5 -26.225,0 0.405,0 0.405,5.2 cw(c1.605,5.2) 2.805,5.2 2.805,0 26.225,0 26.225,5
Cmts.User:
  lines w0.254: -26.225,-3.69 -23.725,-3.69 ; -26.225,-2.05 -23.725,-2.05
  text "mated PCB distance: 3.69 mm (max)" at -23.63,-4.411 h0.75
  text "mated PCB distance: 2.05 mm (min)" at -23.63,-2.771 h0.75
  text "Chamfer 30 degree 0.45 mm" at -7.868,-0.21 h0.75

## Samtec_HSEC8-160-X-X-DV_2x60_P0.8mm_Wing_Edge [mm]
pads (120):
  rect 0.55x2.8 smd: 1(-25.2,2.4) 3(-24.4,2.4) 5(-23.6,2.4) 7(-22.8,2.4) 9(-22,2.4) 11(-21.2,2.4) 13(-20.4,2.4) 15(-19.6,2.4) 17(-18.8,2.4) 19(-18,2.4) 21(-17.2,2.4) 23(-16.4,2.4) 25(-15.6,2.4) 27(-14.8,2.4) 29(-14,2.4) 31(-13.2,2.4) 33(-12.4,2.4) 35(-11.6,2.4) 37(-10.8,2.4) 39(-10,2.4) 41(-9.2,2.4) 43(-8.4,2.4) 45(-7.6,2.4) 47(-6.8,2.4) 49(-6,2.4) 51(-5.2,2.4) 53(-4.4,2.4) 55(-3.6,2.4) 57(-2.8,2.4) 59(-2,2.4) 61(-1.2,2.4) 63(-0.4,2.4) 65(3.6,2.4) 67(4.4,2.4) 69(5.2,2.4) 71(6,2.4) 73(6.8,2.4) 75(7.6,2.4) 77(8.4,2.4) 79(9.2,2.4) 81(10,2.4) 83(10.8,2.4) 85(11.6,2.4) 87(12.4,2.4) 89(13.2,2.4) 91(14,2.4) 93(14.8,2.4) 95(15.6,2.4) 97(16.4,2.4) 99(17.2,2.4) 101(18,2.4) 103(18.8,2.4) 105(19.6,2.4) 107(20.4,2.4) 109(21.2,2.4) 111(22,2.4) 113(22.8,2.4) 115(23.6,2.4) 117(24.4,2.4) 119(25.2,2.4)
  rect 0.55x2.8 smd far side: 2(-25.2,2.4) 4(-24.4,2.4) 6(-23.6,2.4) 8(-22.8,2.4) 10(-22,2.4) 12(-21.2,2.4) 14(-20.4,2.4) 16(-19.6,2.4) 18(-18.8,2.4) 20(-18,2.4) 22(-17.2,2.4) 24(-16.4,2.4) 26(-15.6,2.4) 28(-14.8,2.4) 30(-14,2.4) 32(-13.2,2.4) 34(-12.4,2.4) 36(-11.6,2.4) 38(-10.8,2.4) 40(-10,2.4) 42(-9.2,2.4) 44(-8.4,2.4) 46(-7.6,2.4) 48(-6.8,2.4) 50(-6,2.4) 52(-5.2,2.4) 54(-4.4,2.4) 56(-3.6,2.4) 58(-2.8,2.4) 60(-2,2.4) 62(-1.2,2.4) 64(-0.4,2.4) 66(3.6,2.4) 68(4.4,2.4) 70(5.2,2.4) 72(6,2.4) 74(6.8,2.4) 76(7.6,2.4) 78(8.4,2.4) 80(9.2,2.4) 82(10,2.4) 84(10.8,2.4) 86(11.6,2.4) 88(12.4,2.4) 90(13.2,2.4) 92(14,2.4) 94(14.8,2.4) 96(15.6,2.4) 98(16.4,2.4) 100(17.2,2.4) 102(18,2.4) 104(18.8,2.4) 106(19.6,2.4) 108(20.4,2.4) 110(21.2,2.4) 112(22,2.4) 114(22.8,2.4) 116(23.6,2.4) 118(24.4,2.4) 120(25.2,2.4)
F.SilkS:
  lines w0.254: -26.225,5.13 -24.955,6.4 26.225,6.4
  text "119" at 23.518,4.025 h0.75
  text "65" at 3.261,4.025 h0.75
  text "63" at -1.489,4.025 h0.75
  text "1" at -25.439,4.025 h0.75
B.SilkS:
  lines w0.254: -26.225,6.4 26.225,6.4
  text "120" at 25.459,4.025 h0.75
  text "66" at 4.671,4.025 h0.75
  text "64" at -0.043,4.025 h0.75
  text "2" at -24.8,4.025 h0.75
Top Assembly:
  lines w0.254: -26.225,0.88 26.225,0.88 ; -26.225,0 26.225,0 26.225,6.4 -24.955,6.4 -26.225,5.13 -26.225,0
  text "'.Designator'" at -4.047,1.7 h1
Bottom Assembly:
  lines w0.254: -26.225,0.88 26.225,0.88 ; -26.225,0 26.225,0 26.225,6.4 -26.225,6.4 -26.225,0
Top Courtyard:
  lines w0.254: -26.48,-0.25 26.48,-0.25 26.48,6.65 -26.48,6.65 -26.48,-0.25
Bottom Courtyard:
  lines w0.254: -26.48,-0.25 26.48,-0.25 26.48,6.65 -26.48,6.65 -26.48,-0.25
Top Designator:
  text ".Designator" at -7.618,0.475 h1.52
Board Shape:
  lines w0.254: -27.225,6 cw(c-27.225,5) -26.225,5 -26.225,0 0.405,0 0.405,5.2 cw(c1.605,5.2) 2.805,5.2 2.805,0 26.225,0 26.225,5 cw(c27.225,5) 27.225,6
Cmts.User:
  lines w0.254: -26.225,-3.69 -23.725,-3.69 ; -26.225,-2.05 -23.725,-2.05
  text "mated PCB distance: 3.69 mm (max)" at -23.63,-4.411 h0.75
  text "mated PCB distance: 2.05 mm (min)" at -23.63,-2.771 h0.75
  text "Chamfer 30 degree 0.45 mm" at -7.868,-0.21 h0.75

## Samtec_HSEC8-170-01-X-DV-A-BL_2x70_P0.8mm_Pol32_Socket_WeldTabs_BoardLocks [mm]
pads (144):
  rrect25% 0.5x1.2 smd: 1(-29.2,-1.7) 2(-29.2,1.7) 3(-28.4,-1.7) 4(-28.4,1.7) 5(-27.6,-1.7) 6(-27.6,1.7) 7(-26.8,-1.7) 8(-26.8,1.7) 9(-26,-1.7) 10(-26,1.7) 11(-25.2,-1.7) 12(-25.2,1.7) 13(-24.4,-1.7) 14(-24.4,1.7) 15(-23.6,-1.7) 16(-23.6,1.7) 17(-22.8,-1.7) 18(-22.8,1.7) 19(-22,-1.7) 20(-22,1.7) 21(-21.2,-1.7) 22(-21.2,1.7) 23(-20.4,-1.7) 24(-20.4,1.7) 25(-19.6,-1.7) 26(-19.6,1.7) 27(-18.8,-1.7) 28(-18.8,1.7) 29(-18,-1.7) 30(-18,1.7) 31(-17.2,-1.7) 32(-17.2,1.7) 33(-16.4,-1.7) 34(-16.4,1.7) 35(-15.6,-1.7) 36(-15.6,1.7) 37(-14.8,-1.7) 38(-14.8,1.7) 39(-14,-1.7) 40(-14,1.7) 41(-13.2,-1.7) 42(-13.2,1.7) 43(-12.4,-1.7) 44(-12.4,1.7) 45(-11.6,-1.7) 46(-11.6,1.7) 47(-10.8,-1.7) 48(-10.8,1.7) 49(-10,-1.7) 50(-10,1.7) 51(-9.2,-1.7) 52(-9.2,1.7) 53(-8.4,-1.7) 54(-8.4,1.7) 55(-7.6,-1.7) 56(-7.6,1.7) 57(-6.8,-1.7) 58(-6.8,1.7) 59(-6,-1.7) 60(-6,1.7) 61(-5.2,-1.7) 62(-5.2,1.7) 63(-4.4,-1.7) 64(-4.4,1.7) 65(-0.4,-1.7) 66(-0.4,1.7) 67(0.4,-1.7) 68(0.4,1.7) 69(1.2,-1.7) 70(1.2,1.7) 71(2,-1.7) 72(2,1.7) 73(2.8,-1.7) 74(2.8,1.7) 75(3.6,-1.7) 76(3.6,1.7) 77(4.4,-1.7) 78(4.4,1.7) 79(5.2,-1.7) 80(5.2,1.7) 81(6,-1.7) 82(6,1.7) 83(6.8,-1.7) 84(6.8,1.7) 85(7.6,-1.7) 86(7.6,1.7) 87(8.4,-1.7) 88(8.4,1.7) 89(9.2,-1.7) 90(9.2,1.7) 91(10,-1.7) 92(10,1.7) 93(10.8,-1.7) 94(10.8,1.7) 95(11.6,-1.7) 96(11.6,1.7) 97(12.4,-1.7) 98(12.4,1.7) 99(13.2,-1.7) 100(13.2,1.7) 101(14,-1.7) 102(14,1.7) 103(14.8,-1.7) 104(14.8,1.7) 105(15.6,-1.7) 106(15.6,1.7) 107(16.4,-1.7) 108(16.4,1.7) 109(17.2,-1.7) 110(17.2,1.7) 111(18,-1.7) 112(18,1.7) 113(18.8,-1.7) 114(18.8,1.7) 115(19.6,-1.7) 116(19.6,1.7) 117(20.4,-1.7) 118(20.4,1.7) 119(21.2,-1.7) 120(21.2,1.7) 121(22,-1.7) 122(22,1.7) 123(22.8,-1.7) 124(22.8,1.7) 125(23.6,-1.7) 126(23.6,1.7) 127(24.4,-1.7) 128(24.4,1.7) 129(25.2,-1.7) 130(25.2,1.7) 131(26,-1.7) 132(26,1.7) 133(26.8,-1.7) 134(26.8,1.7) 135(27.6,-1.7) 136(27.6,1.7) 137(28.4,-1.7) 138(28.4,1.7) 139(29.2,-1.7) 140(29.2,1.7)
  round 2.54 hole 0.84: Un1(-33.05,0) Un4(33.05,0)
  round 1.27 hole 1.27: Un2(-30.7,-1.5) Un3(30.7,0)
F.SilkS:
  circle w0.254: c-29.2,-3.4 r0.25
  lines w0.254: -37.635,-2.246 -36.271,-3.61 -29.79,-3.61 -29.79,-2.91 29.79,-2.91 29.79,-3.61 37.635,-3.61 37.635,3.61 29.79,3.61 29.79,2.91 -29.79,2.91 -29.79,3.61 -37.635,3.61 -37.635,-2.246
Top Assembly:
  lines w0.254: -37.525,-2.2 -36.225,-3.5 -29.9,-3.5 -29.9,-2.8 29.9,-2.8 29.9,-3.5 37.525,-3.5 37.525,3.5 29.9,3.5 29.9,2.8 -29.9,2.8 -29.9,3.5 -37.525,3.5 -37.525,-2.2 ; -29.6,-3.5 -28.8,-3.5 -29.2,-2.86 -29.6,-3.5
  text "'.Designator'" at -4.047,-0.84 h1
Top Courtyard:
  lines w0.254: -38.03,-4 38.03,-4 38.03,4 -38.03,4 -38.03,-4
Top Designator:
  text ".Designator" at -7.618,-0.508 h1.52

## Samtec_HSEC8-170-01-X-DV-A-WT_2x70_P0.8mm_Pol32_Socket_WeldTabs [mm]
pads (144):
  rrect25% 0.5x1.2 smd: 1(-29.2,-1.7) 2(-29.2,1.7) 3(-28.4,-1.7) 4(-28.4,1.7) 5(-27.6,-1.7) 6(-27.6,1.7) 7(-26.8,-1.7) 8(-26.8,1.7) 9(-26,-1.7) 10(-26,1.7) 11(-25.2,-1.7) 12(-25.2,1.7) 13(-24.4,-1.7) 14(-24.4,1.7) 15(-23.6,-1.7) 16(-23.6,1.7) 17(-22.8,-1.7) 18(-22.8,1.7) 19(-22,-1.7) 20(-22,1.7) 21(-21.2,-1.7) 22(-21.2,1.7) 23(-20.4,-1.7) 24(-20.4,1.7) 25(-19.6,-1.7) 26(-19.6,1.7) 27(-18.8,-1.7) 28(-18.8,1.7) 29(-18,-1.7) 30(-18,1.7) 31(-17.2,-1.7) 32(-17.2,1.7) 33(-16.4,-1.7) 34(-16.4,1.7) 35(-15.6,-1.7) 36(-15.6,1.7) 37(-14.8,-1.7) 38(-14.8,1.7) 39(-14,-1.7) 40(-14,1.7) 41(-13.2,-1.7) 42(-13.2,1.7) 43(-12.4,-1.7) 44(-12.4,1.7) 45(-11.6,-1.7) 46(-11.6,1.7) 47(-10.8,-1.7) 48(-10.8,1.7) 49(-10,-1.7) 50(-10,1.7) 51(-9.2,-1.7) 52(-9.2,1.7) 53(-8.4,-1.7) 54(-8.4,1.7) 55(-7.6,-1.7) 56(-7.6,1.7) 57(-6.8,-1.7) 58(-6.8,1.7) 59(-6,-1.7) 60(-6,1.7) 61(-5.2,-1.7) 62(-5.2,1.7) 63(-4.4,-1.7) 64(-4.4,1.7) 65(-0.4,-1.7) 66(-0.4,1.7) 67(0.4,-1.7) 68(0.4,1.7) 69(1.2,-1.7) 70(1.2,1.7) 71(2,-1.7) 72(2,1.7) 73(2.8,-1.7) 74(2.8,1.7) 75(3.6,-1.7) 76(3.6,1.7) 77(4.4,-1.7) 78(4.4,1.7) 79(5.2,-1.7) 80(5.2,1.7) 81(6,-1.7) 82(6,1.7) 83(6.8,-1.7) 84(6.8,1.7) 85(7.6,-1.7) 86(7.6,1.7) 87(8.4,-1.7) 88(8.4,1.7) 89(9.2,-1.7) 90(9.2,1.7) 91(10,-1.7) 92(10,1.7) 93(10.8,-1.7) 94(10.8,1.7) 95(11.6,-1.7) 96(11.6,1.7) 97(12.4,-1.7) 98(12.4,1.7) 99(13.2,-1.7) 100(13.2,1.7) 101(14,-1.7) 102(14,1.7) 103(14.8,-1.7) 104(14.8,1.7) 105(15.6,-1.7) 106(15.6,1.7) 107(16.4,-1.7) 108(16.4,1.7) 109(17.2,-1.7) 110(17.2,1.7) 111(18,-1.7) 112(18,1.7) 113(18.8,-1.7) 114(18.8,1.7) 115(19.6,-1.7) 116(19.6,1.7) 117(20.4,-1.7) 118(20.4,1.7) 119(21.2,-1.7) 120(21.2,1.7) 121(22,-1.7) 122(22,1.7) 123(22.8,-1.7) 124(22.8,1.7) 125(23.6,-1.7) 126(23.6,1.7) 127(24.4,-1.7) 128(24.4,1.7) 129(25.2,-1.7) 130(25.2,1.7) 131(26,-1.7) 132(26,1.7) 133(26.8,-1.7) 134(26.8,1.7) 135(27.6,-1.7) 136(27.6,1.7) 137(28.4,-1.7) 138(28.4,1.7) 139(29.2,-1.7) 140(29.2,1.7)
  round 2.54 hole 0.84: Un1(-33.05,0) Un4(33.05,0)
  round 1.27 hole 1.27: Un2(-30.7,-1.5) Un3(30.7,0)
F.SilkS:
  circle w0.254: c-29.2,-3.4 r0.25
  lines w0.254: -34.31,-0.868 -34.31,-2.246 -32.946,-3.61 -29.79,-3.61 -29.79,-2.91 29.79,-2.91 29.79,-3.61 34.31,-3.61 34.31,-0.868 ; -34.31,0.868 -34.31,3.61 -29.79,3.61 -29.79,2.91 29.79,2.91 29.79,3.61 34.31,3.61 34.31,0.868
Top Assembly:
  lines w0.254: -34.2,-2.2 -32.9,-3.5 -29.9,-3.5 -29.9,-2.8 29.9,-2.8 29.9,-3.5 34.2,-3.5 34.2,3.5 29.9,3.5 29.9,2.8 -29.9,2.8 -29.9,3.5 -34.2,3.5 -34.2,-2.2 ; -29.6,-3.5 -28.8,-3.5 -29.2,-2.86 -29.6,-3.5
  text "'.Designator'" at -4.047,-0.84 h1
Top Courtyard:
  lines w0.254: -34.83,-4 34.83,-4 34.83,4 -34.83,4 -34.83,-4
Top Designator:
  text ".Designator" at -7.618,-0.508 h1.52

## Samtec_HSEC8-170-01-X-DV-A_2x70_P0.8mm_Pol32_Socket_AlignmentPins [mm]
pads (142):
  rrect25% 0.5x1.2 smd: 1(-29.2,-1.7) 2(-29.2,1.7) 3(-28.4,-1.7) 4(-28.4,1.7) 5(-27.6,-1.7) 6(-27.6,1.7) 7(-26.8,-1.7) 8(-26.8,1.7) 9(-26,-1.7) 10(-26,1.7) 11(-25.2,-1.7) 12(-25.2,1.7) 13(-24.4,-1.7) 14(-24.4,1.7) 15(-23.6,-1.7) 16(-23.6,1.7) 17(-22.8,-1.7) 18(-22.8,1.7) 19(-22,-1.7) 20(-22,1.7) 21(-21.2,-1.7) 22(-21.2,1.7) 23(-20.4,-1.7) 24(-20.4,1.7) 25(-19.6,-1.7) 26(-19.6,1.7) 27(-18.8,-1.7) 28(-18.8,1.7) 29(-18,-1.7) 30(-18,1.7) 31(-17.2,-1.7) 32(-17.2,1.7) 33(-16.4,-1.7) 34(-16.4,1.7) 35(-15.6,-1.7) 36(-15.6,1.7) 37(-14.8,-1.7) 38(-14.8,1.7) 39(-14,-1.7) 40(-14,1.7) 41(-13.2,-1.7) 42(-13.2,1.7) 43(-12.4,-1.7) 44(-12.4,1.7) 45(-11.6,-1.7) 46(-11.6,1.7) 47(-10.8,-1.7) 48(-10.8,1.7) 49(-10,-1.7) 50(-10,1.7) 51(-9.2,-1.7) 52(-9.2,1.7) 53(-8.4,-1.7) 54(-8.4,1.7) 55(-7.6,-1.7) 56(-7.6,1.7) 57(-6.8,-1.7) 58(-6.8,1.7) 59(-6,-1.7) 60(-6,1.7) 61(-5.2,-1.7) 62(-5.2,1.7) 63(-4.4,-1.7) 64(-4.4,1.7) 65(-0.4,-1.7) 66(-0.4,1.7) 67(0.4,-1.7) 68(0.4,1.7) 69(1.2,-1.7) 70(1.2,1.7) 71(2,-1.7) 72(2,1.7) 73(2.8,-1.7) 74(2.8,1.7) 75(3.6,-1.7) 76(3.6,1.7) 77(4.4,-1.7) 78(4.4,1.7) 79(5.2,-1.7) 80(5.2,1.7) 81(6,-1.7) 82(6,1.7) 83(6.8,-1.7) 84(6.8,1.7) 85(7.6,-1.7) 86(7.6,1.7) 87(8.4,-1.7) 88(8.4,1.7) 89(9.2,-1.7) 90(9.2,1.7) 91(10,-1.7) 92(10,1.7) 93(10.8,-1.7) 94(10.8,1.7) 95(11.6,-1.7) 96(11.6,1.7) 97(12.4,-1.7) 98(12.4,1.7) 99(13.2,-1.7) 100(13.2,1.7) 101(14,-1.7) 102(14,1.7) 103(14.8,-1.7) 104(14.8,1.7) 105(15.6,-1.7) 106(15.6,1.7) 107(16.4,-1.7) 108(16.4,1.7) 109(17.2,-1.7) 110(17.2,1.7) 111(18,-1.7) 112(18,1.7) 113(18.8,-1.7) 114(18.8,1.7) 115(19.6,-1.7) 116(19.6,1.7) 117(20.4,-1.7) 118(20.4,1.7) 119(21.2,-1.7) 120(21.2,1.7) 121(22,-1.7) 122(22,1.7) 123(22.8,-1.7) 124(22.8,1.7) 125(23.6,-1.7) 126(23.6,1.7) 127(24.4,-1.7) 128(24.4,1.7) 129(25.2,-1.7) 130(25.2,1.7) 131(26,-1.7) 132(26,1.7) 133(26.8,-1.7) 134(26.8,1.7) 135(27.6,-1.7) 136(27.6,1.7) 137(28.4,-1.7) 138(28.4,1.7) 139(29.2,-1.7) 140(29.2,1.7)
  round 1.27 hole 1.27: Un1(-30.7,-1.5) Un2(30.7,0)
F.SilkS:
  circle w0.254: c-29.2,-3.4 r0.25
  lines w0.254: -32.01,-2.246 -30.646,-3.61 -29.79,-3.61 -29.79,-2.91 29.79,-2.91 29.79,-3.61 32.01,-3.61 32.01,3.61 29.79,3.61 29.79,2.91 -29.79,2.91 -29.79,3.61 -32.01,3.61 -32.01,-2.246
Top Assembly:
  lines w0.254: -31.9,-2.2 -30.6,-3.5 -29.9,-3.5 -29.9,-2.8 29.9,-2.8 29.9,-3.5 31.9,-3.5 31.9,3.5 29.9,3.5 29.9,2.8 -29.9,2.8 -29.9,3.5 -31.9,3.5 -31.9,-2.2 ; -29.6,-3.5 -28.8,-3.5 -29.2,-2.86 -29.6,-3.5
  text "'.Designator'" at -4.047,-0.84 h1
Top Courtyard:
  lines w0.254: -32.41,-4 32.41,-4 32.41,4 -32.41,4 -32.41,-4
Top Designator:
  text ".Designator" at -7.618,-0.508 h1.52